# EAGLE library part SSM2166 (library wheat)
IC, MIC PREAMP, SSM2166
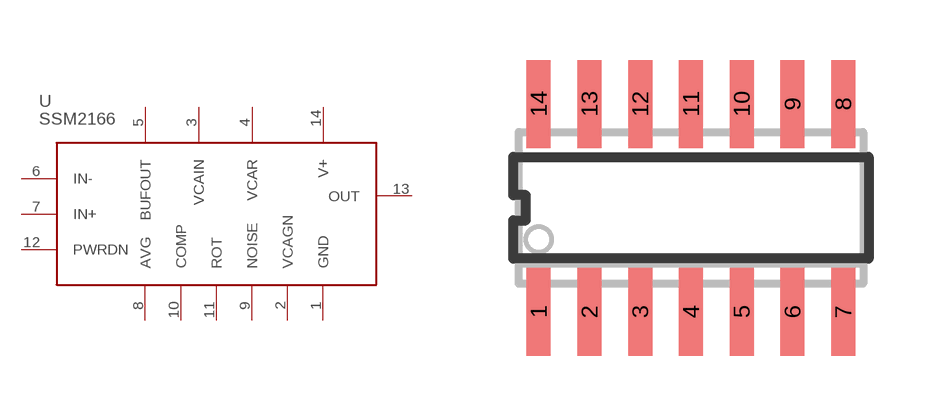
[diagram p30: symbol with the pads of SO14; footprint SO14]

Designator prefix U

## SSM2166  [SO14]
1  GND  pwr
2  VCAGN  out
3  VCAIN  pwr
4  VCAR  in
5  BUFOUT  out
6  IN-  in
7  IN+  in
8  AVG  out
9  NOISE  out
10  COMP  out
11  ROT  out
12  PWRDN  in
13  OUT  out
14  V+  in

## Footprint SO14 (pad centres in mm)
SOIC14
smd 0.6 x 2.2: 1 -3.81,-2.6; 2 -2.54,-2.6; 3 -1.27,-2.6; 4 0,-2.6; 5 1.27,-2.6; 6 2.54,-2.6; 7 3.81,-2.6; 8 3.81,2.6; 9 2.54,2.6; 10 1.27,2.6; 11 0,2.6; 12 -1.27,2.6; 13 -2.54,2.6; 14 -3.81,2.6